# Altium schematic symbol library Apalis Evaluation Board.SchLib: 310 symbols (part 3 of 3)
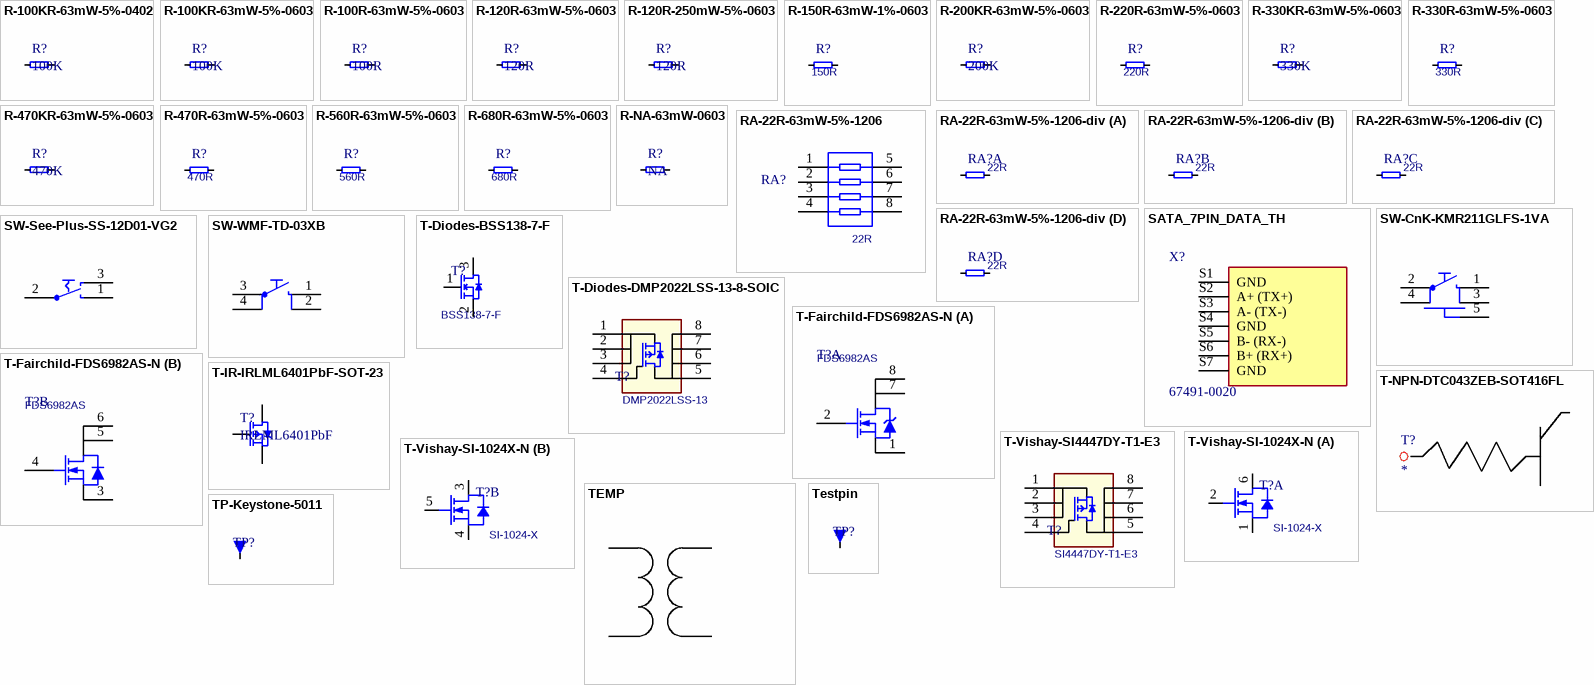
[diagram p22: symbols R-100KR-63mW-5%-0402 to TP-Keystone-5011]

## SW-CnK-KMR211GLFS-1VA
designator SW?, comment KMR211GLFS
Power ON Switch; Manufacturer Name: C&N; Rating: 1VA; Manufacturer Part No.: KMR211GLFS
footprint T_CnK_KMR211GLFS (Microminiature Tact Switch for SMT)
pins: 1, 2, 3, 4, 5

## SW-See-Plus-SS-12D01-VG2
designator SW?, comment SS-12D01-VG2
Switch; Manufacturer Name: See-Plus; Rating: 0.3A; Manufacturer Part No.: SS-12D01-VG2
footprint T_See-Plus_SS-12D01-VG2 (Slide Switch)
pins: 1, 2, 3

## SW-WMF-TD-03XB
designator SW?, comment TD-03XB
Push Button; Manufacturer Name: WMF; Rating: 50mA; Manufacturer Part No.: TD-03XB
footprint T_WMF_TD-03XB (Push Button)
pins: 1, 2, 3, 4

## T-Diodes-BSS138-7-F
designator T?, comment BSS138-7-F
N-channel MOSFET, BSS138-7-F; Manufacturer Name: Diodes; Manufacturer Part No.: BSS138-7-F
footprint SOT95P237X112-3N (SOT23, 3-Leads, Body 3.0x2.6mm (max), Pitch 0.95mm, IPC Medium Density)
pins: 1, 2, 3

## T-Diodes-DMP2022LSS-13-8-SOIC
designator T?, comment DMP2022LSS-13
p-channel MOSFET, DMP2022LSS-13; Manufacturer Name: DIODES; Manufacturer Part No.: DMP2022LSS-13
footprint SOIC127P600X173-8N
pins: 1 S, 2 S, 3 S, 4 G, 5 D, 6 D, 7 D, 8 D

## T-Fairchild-FDS6982AS-N
designator T?, comment FDS6982AS
N-Channel PowerTrench SyncFET; Manufacturer Name: Fairchild; Manufacturer Part No.: FDS6982AS
footprint SOIC127P600X173-8N
part A pins: 1 S, 2 G, 7 D, 8 D
part B pins: 3 S, 4 G, 5 D, 6 D

## T-IR-IRLML6401PbF-SOT-23
designator T?, comment IRLML6401PbF
p-channel MOSFET, IRLML6401PbF; Manufacturer Name: International Rectifier; Manufacturer Part No.: IRLML6401PbF
footprint SOT95P237X112-3N (SOT23, 3-Leads, Body 3.0x2.6mm (max), Pitch 0.95mm, IPC Medium Density)
pins: 1, 2, 3

## T-NPN-DTC043ZEB-SOT416FL
designator T?
NPN 100mA 50V Digital Transistor; Vcc: 50V; Ic: 100mA

## T-Vishay-SI4447DY-T1-E3
designator T?, comment SI4447DY-T1-E3
p-channel MOSFET, SI4447DY-T1-E3; Manufacturer Name: Vishay; Manufacturer Part No.: SI4447DY-T1-E3
footprint SOIC127P600X173-8N
pins: 1 S, 2 S, 3 S, 4 G, 5 D, 6 D, 7 D, 8 D

## T-Vishay-SI-1024X-N
designator T?  Manufacturer Part No.: SI-1024-X  (hidden comment: T-Vishay-SI-1024X-N)
Dual N-Channel 20V (D-S)  MOSFET; Manufacturer Name: Vishay
footprint SOTFL50P160X60-6N
part A pins: 1 S, 2 G, 6 D
part B pins: 3 D, 4 S, 5 G

## TEMP
designator *
footprint SOP65P490X110-8AN

## Testpin
designator TP?  (value not drawn)
Testpin TH
footprint T_TP-THT (Testpin TH)
pins: 1

## TP-Keystone-5011
designator TP?, comment 5011  (value not drawn)
Testpin Eye TH; Manufacturer Name: Keystone; Manufacturer Part No.: 5011
footprint T_TP-THT - EYE (Testpin TH)
pins: 1